# EAGLE library part ADUM1410ARWZ (library ScouseTom_New)
ISOLATOR, DGTL, 4CHAN
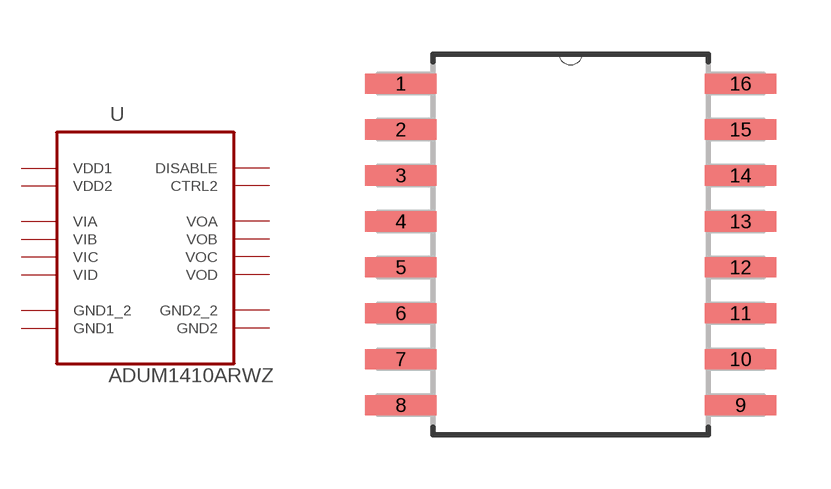
[diagram p0: symbol with the pads of SOIC127P1032X265-16N; footprint SOIC127P1032X265-16N]

Designator prefix U

## ADUM1410ARWZ (MPN: ADUM1410ARWZ; OC_FARNELL: 2067770; OC_NEWARK: 73T8174; PACKAGE: 16-Lead SOIC_W; SUPPLIER: Analog Devices)  [SOIC127P1032X265-16N]
1  VDD1  pwr
2  GND1_2  pas
3  VIA  pas
4  VIB  pas
5  VIC  pas
6  VID  pas
7  DISABLE  pas
8  GND1  pas
9  GND2_2  pas
10  CTRL2  pas
11  VOD  pas
12  VOC  pas
13  VOB  pas
14  VOA  pas
15  GND2  pas
16  VDD2  pwr

## Footprint SOIC127P1032X265-16N (pad centres in mm)
smd 1.981 x 0.559: 1 -4.699,4.445; 2 -4.699,3.175; 3 -4.699,1.905; 4 -4.699,0.635; 5 -4.699,-0.635; 6 -4.699,-1.905; 7 -4.699,-3.175; 8 -4.699,-4.445; 9 4.699,-4.445; 10 4.699,-3.175; 11 4.699,-1.905; 12 4.699,-0.635; 13 4.699,0.635; 14 4.699,1.905; 15 4.699,3.175; 16 4.699,4.445